# EAGLE library part MAX4173F (library cachev)
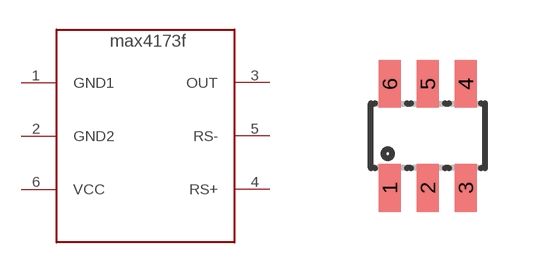
[diagram p1: symbol with the pads of SOT23-6; footprint SOT23-6]

Designator prefix -

## MAX4173F  [SOT23-6]
1  GND1
2  GND2
3  OUT
4  RS+
5  RS-
6  VCC

## Footprint SOT23-6 (pad centres in mm)
smd 0.55 x 1.2: 1 -0.95,-1.3; 2 0,-1.3; 3 0.95,-1.3; 4 0.95,1.3; 5 0,1.3; 6 -0.95,1.3